# Altium footprint library POT PANASONIC EVM.PCBLIB: 1 footprints
Each footprint in its own frame and in the unit in brackets; x right, y up, seen from the top. Pads: shape width x height; smd on the part's side, far side on the other; paste and mask are expansions set on the pad; w line width, h text height; cw(c..) or ccw(c..) is an arc to the next point about the centre after c.
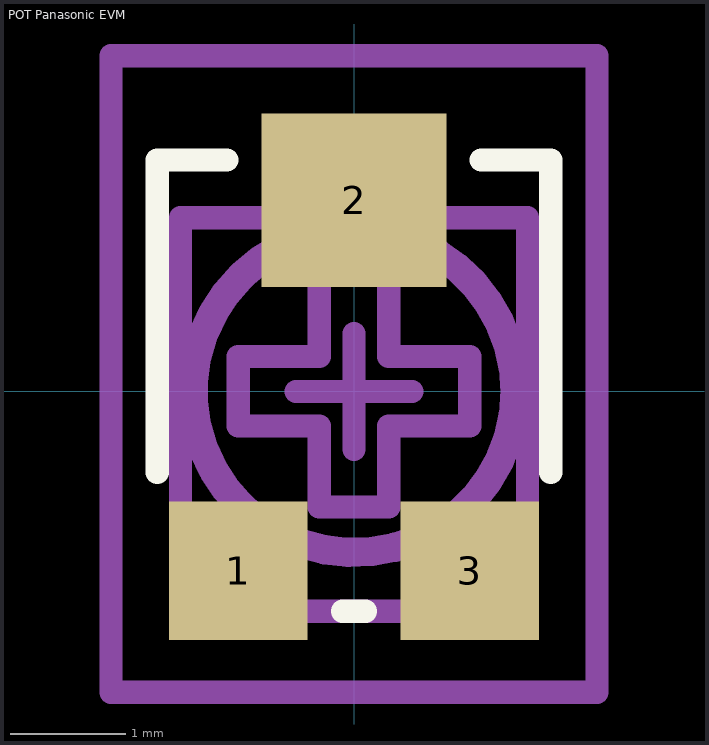
[diagram p0: the footprint, top view; thin cyan lines are the x and y axes]

## POT Panasonic EVM [mm] "Panasonic EVM3Y 3.45mm x 3.10mm x 1.55mm"
height 1.55
pads (3):
  rect 1.2x1.2 smd: 1(-1,-1.55) 3(1,-1.55)
  rect 1.6x1.5 smd: 2(0,1.65)
Top Overlay:
  lines w0.2: -1.7,-0.7 -1.7,2 -1.1,2 ; -0.1,-1.9 0.1,-1.9 ; 1.1,2 1.7,2 1.7,-0.7
Mechanical 1:
  circle w0.254: c0,0 r1.393
  lines w0.2: -1.5,-1.9 -1.5,1.5 1.5,1.5 1.5,-1.9 -1.5,-1.9 ; -1,-0.3 -0.3,-0.3 -0.3,-1 0.3,-1 0.3,-0.3 1,-0.3 1,0.3 0.3,0.3 0.3,1 -0.3,1 -0.3,0.3 -1,0.3 -1,-0.3
Mechanical 15:
  lines w0.2: -0.5,0 0.5,0 ; 0,-0.5 0,0.5 ; -2.1,-2.6 2.1,-2.6 2.1,2.9 -2.1,2.9 -2.1,-2.6
3D body "Panasonic EVM.STEP": height 1.55, standoff 0, extent -1.55,-1.9 1.55,1.85